# EAGLE library part RTC_DS1307 (library microbuilder)
DS1307 I2C RTC with 56-Bytes RAM
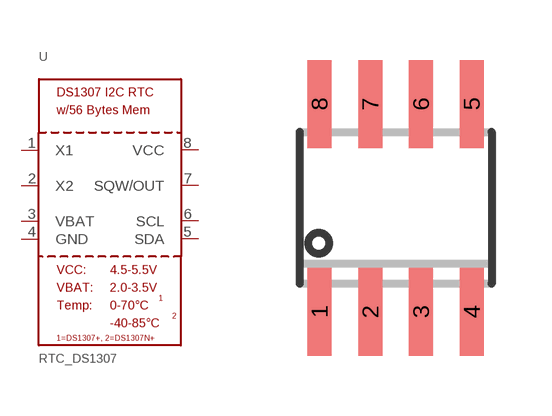
[diagram p203: symbol with the pads of SOIC8_150MIL; footprint SOIC8_150MIL]

Designator prefix U

## RTC_DS1307  [SOIC8_150MIL]
1  X1
2  X2
3  VBAT
4  GND
5  SDA
6  SCL
7  SQW/OUT
8  VCC

## Footprint SOIC8_150MIL (pad centres in mm)
Small Outline IC - 150mil Wide
smd 0.6 x 2.2: 1 -1.905,-2.6; 2 -0.635,-2.6; 3 0.635,-2.6; 4 1.905,-2.6; 5 1.905,2.6; 6 0.635,2.6; 7 -0.635,2.6; 8 -1.905,2.6